# Altium schematic symbol library 74AHC245.SchLib: 1 symbol
Pins are listed as number, name and electrical type; pins without a type are passive.

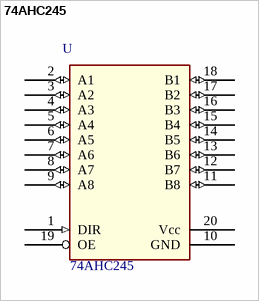
[diagram p0: symbol 74AHC245]

## 74AHC245
designator U  value 74AHC245  (hidden comment: *)
Manufacturer Code: SN74AHC245DW; Manufacturer: Texas Instruments; Voltage: 2V to 5V5; Farnell Code: 1287499; Unit Price: 0,56 €
footprint SSOP20
footprint TSSOP20
pins: 1 DIR (in), 2 A1 (io), 3 A2 (io), 4 A3 (io), 5 A4 (io), 6 A5 (io), 7 A6 (io), 8 A7 (io), 9 A8 (io), 10 GND, 11 B8 (io), 12 B7 (io), 13 B6 (io), 14 B5 (io), 15 B4 (io), 16 B3 (io), 17 B2 (io), 18 B1 (io), 19 OE, 20 Vcc